# EAGLE library part PETC-02-40-01-X-VT(BTOD) (library CONN_Distribution-Bricks)
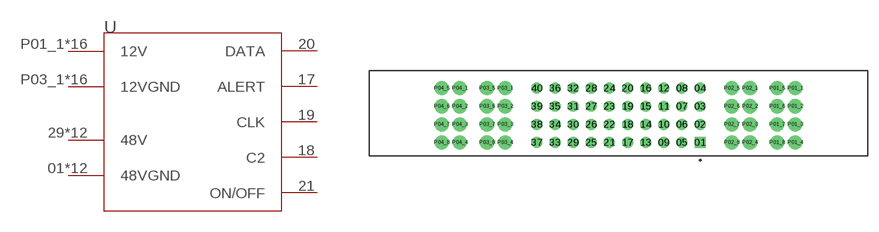
[diagram p1: symbol with the pads of SAMTEC_PETC-02-40-01-X-VT_BTOD; footprint SAMTEC_PETC-02-40-01-X-VT_BTOD]

Designator prefix -

## PETC-02-40-01-X-VT(BTOD)  [SAMTEC_PETC-02-40-01-X-VT_BTOD]
01  48VGND
02  48VGND
03  48VGND
04  48VGND
05  48VGND
06  48VGND
07  48VGND
08  48VGND
09  48VGND
10  48VGND
11  48VGND
12  48VGND
17  ALERT
18  C2
19  CLK
20  DATA
21  ON/OFF
29  48V
30  48V
31  48V
32  48V
33  48V
34  48V
35  48V
36  48V
37  48V
38  48V
39  48V
40  48V
P01_1  12V
P01_2  12V
P01_3  12V
P01_4  12V
P01_5  12V
P01_6  12V
P01_7  12V
P01_8  12V
P02_1  12V
P02_2  12V
P02_3  12V
P02_4  12V
P02_5  12V
P02_6  12V
P02_7  12V
P02_8  12V
P03_1  12VGND
P03_2  12VGND
P03_3  12VGND
P03_4  12VGND
P03_5  12VGND
P03_6  12VGND
P03_7  12VGND
P03_8  12VGND
P04_1  12VGND
P04_2  12VGND
P04_3  12VGND
P04_4  12VGND
P04_5  12VGND
P04_6  12VGND
P04_7  12VGND
P04_8  12VGND

## Footprint SAMTEC_PETC-02-40-01-X-VT_BTOD (pad centres in mm)
drill 1.02 pad 1.52 square: 01 25.4,-12.7
drill 1.02 pad 1.52: 02 25.4,-10.16; 03 25.4,-7.62; 04 25.4,-5.08; 05 22.86,-12.7; 06 22.86,-10.16; 07 22.86,-7.62; 08 22.86,-5.08; 09 20.32,-12.7; 10 20.32,-10.16; 11 20.32,-7.62; 12 20.32,-5.08; 13 17.78,-12.7; 14 17.78,-10.16; 15 17.78,-7.62; 16 17.78,-5.08; 17 15.24,-12.7; 18 15.24,-10.16; 19 15.24,-7.62; 20 15.24,-5.08; 21 12.7,-12.7; 22 12.7,-10.16; 23 12.7,-7.62; 24 12.7,-5.08; 25 10.16,-12.7; 26 10.16,-10.16; 27 10.16,-7.62; 28 10.16,-5.08; 29 7.62,-12.7; 30 7.62,-10.16; 31 7.62,-7.62; 32 7.62,-5.08; 33 5.08,-12.7; 34 5.08,-10.16; 35 5.08,-7.62; 36 5.08,-5.08; 37 2.54,-12.7; 38 2.54,-10.16; 39 2.54,-7.62; 40 2.54,-5.08
drill 1.32 pad 1.98: P01_1 38.735,-5.08; P01_2 38.735,-7.62; P01_3 38.735,-10.16; P01_4 38.735,-12.7; P01_5 36.195,-5.08; P01_6 36.195,-7.62; P01_7 36.195,-10.16; P01_8 36.195,-12.7; P02_1 32.385,-5.08; P02_2 32.385,-7.62; P02_3 32.385,-10.16; P02_4 32.385,-12.7; P02_5 29.845,-5.08; P02_6 29.845,-7.62; P02_7 29.845,-10.16; P02_8 29.845,-12.7; P03_1 -1.905,-5.08; P03_2 -1.905,-7.62; P03_3 -1.905,-10.16; P03_4 -1.905,-12.7; P03_5 -4.445,-5.08; P03_6 -4.445,-7.62; P03_7 -4.445,-10.16; P03_8 -4.445,-12.7; P04_1 -8.255,-5.08; P04_2 -8.255,-7.62; P04_3 -8.255,-10.16; P04_4 -8.255,-12.7; P04_5 -10.795,-5.08; P04_6 -10.795,-7.62; P04_7 -10.795,-10.16; P04_8 -10.795,-12.7